# Altium footprint library M3.PcbLib: 33 footprints (part 1 of 3)
Each footprint in its own frame and in the unit in brackets; x right, y up, seen from the top. Pads: shape width x height; smd on the part's side, far side on the other; paste and mask are expansions set on the pad; w line width, h text height; cw(c..) or ccw(c..) is an arc to the next point about the centre after c.
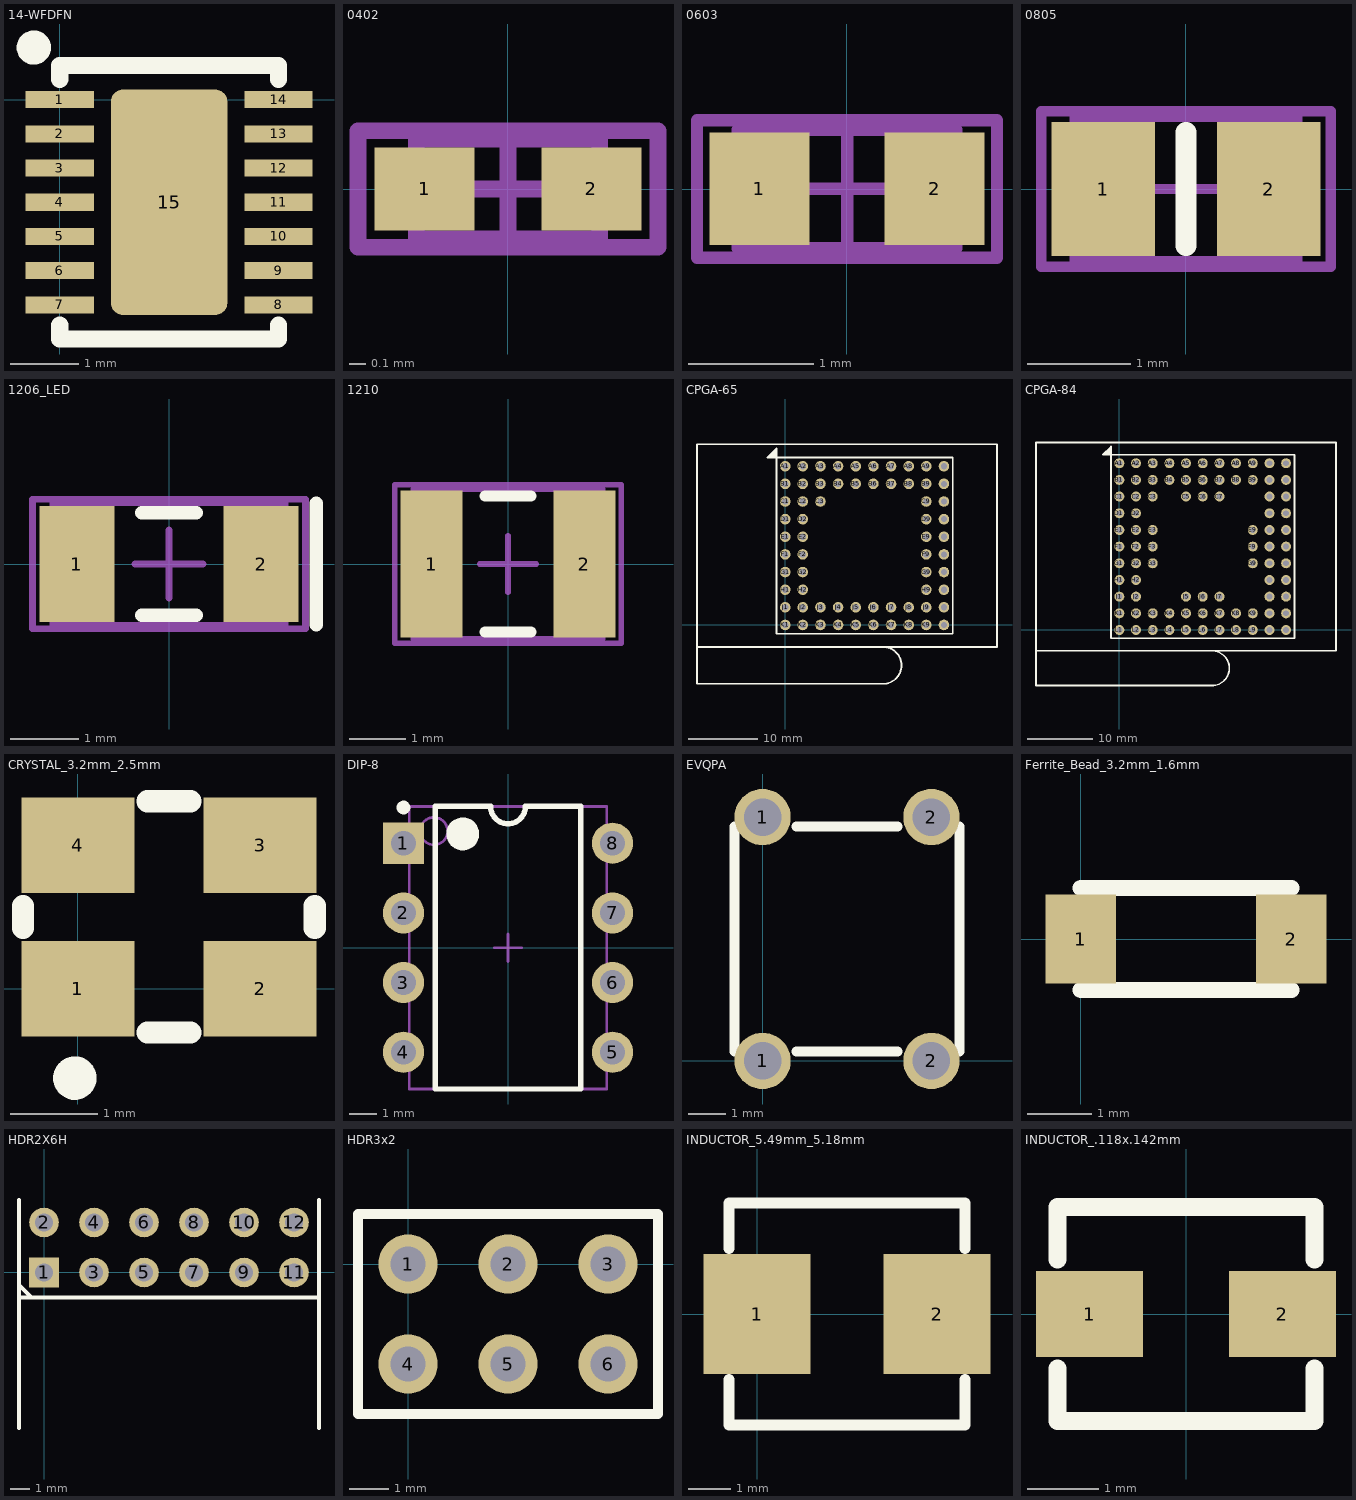
[diagram p0: the footprints below, top view; thin cyan lines are the x and y axes]

## 14-WFDFN [mm]
pads (15):
  rect 1x0.25 smd: 1(0,0) 2(0,-0.5) 3(0,-1) 4(0,-1.5) 5(0,-2) 6(0,-2.5) 7(0,-3) 8(3.2,-3) 9(3.2,-2.5) 10(3.2,-2) 11(3.2,-1.5) 12(3.2,-1) 13(3.2,-0.5) 14(3.2,0)
  rrect20% 1.7x3.3 smd: 15(1.6,-1.5)
Top Overlay:
  circle w0.25: c-0.379,0.762 r0.125
  lines w0.254: 0,-3.3 0,-3.5 3.2,-3.5 3.2,-3.3 ; 0,0.3 0,0.5 3.2,0.5 3.2,0.3

## 0402 [mm] "Chip Capacitor, Body 1.0x0.5mm, IPC High Density"
height 1.3
pads (2):
  rect 0.6x0.5 smd: 1(-0.5,0) 2(0.5,0)
Mechanical 13:
  lines w0.1: -0.55,-0.3 0.55,-0.3 0.55,0.3 -0.55,0.3 -0.55,-0.3
Mechanical 15:
  lines w0.1: -0.3,0 0.3,0 ; 0,-0.3 0,0.3 ; -0.9,-0.35 0.9,-0.35 0.9,0.35 -0.9,0.35 -0.9,-0.35
3D body: height 1.3, standoff 0, extent -0.55,-0.3 0.55,0.3

## 0603 [mm] "Chip Capacitor, Body 1.6x0.8mm, IPC High Density"
height 1.3
pads (2):
  rect 0.8x0.9 smd: 1(-0.7,0) 2(0.7,0)
Mechanical 13:
  lines w0.1: -0.875,-0.475 0.875,-0.475 0.875,0.475 -0.875,0.475 -0.875,-0.475
Mechanical 15:
  lines w0.1: -0.475,0 0.475,0 ; 0,-0.475 0,0.475 ; -1.2,-0.55 1.2,-0.55 1.2,0.55 -1.2,0.55 -1.2,-0.55
3D body: height 1.3, standoff 0, extent -0.875,-0.475 0.875,0.475

## 0805 [mm] "Chip Resistor, Body 2.0x1.2mm, IPC High Density"
height 0.7
pads (2):
  rect 1x1.3 smd: 1(-0.8,0) 2(0.8,0)
Top Overlay:
  lines w0.2: 0,-0.55 0,0.55
Mechanical 13:
  lines w0.1: -1.075,-0.7 -1.075,0.7 1.075,0.7 1.075,-0.7 -1.075,-0.7
Mechanical 15:
  lines w0.1: -0.5,0 0.5,0 ; 0,-0.5 0,0.5 ; -1.4,-0.75 -1.4,0.75 1.4,0.75 1.4,-0.75 -1.4,-0.75
3D body: height 0.7, standoff 0, extent -1.075,-0.7 1.075,0.7

## 1206_LED [mm] "Chip Capacitor, Body 3.2x1.6mm, IPC High Density"
height 1.3
pads (2):
  rect 1.1x1.7 smd: 1(-1.35,0) 2(1.35,0)
Top Overlay:
  lines w0.2: -0.4,-0.75 0.4,-0.75 ; -0.4,0.75 0.4,0.75 ; 2.159,-0.889 2.159,0.889
Mechanical 13:
  lines w0.1: -1.7,-0.9 1.7,-0.9 1.7,0.9 -1.7,0.9 -1.7,-0.9
Mechanical 15:
  lines w0.1: -0.5,0 0.5,0 ; 0,-0.5 0,0.5 ; -2,-0.95 2,-0.95 2,0.95 -2,0.95 -2,-0.95
3D body: height 1.3, standoff 0, extent -1.7,-0.9 1.7,0.9

## 1210 [mm] "Chip Resistor, Body 3.2x2.5mm, IPC High Density"
height 0.9
pads (2):
  rect 1.1x2.6 smd: 1(-1.35,0) 2(1.35,0)
Top Overlay:
  lines w0.2: -0.4,-1.2 0.4,-1.2 ; -0.4,1.2 0.4,1.2
Mechanical 13:
  lines w0.1: -1.675,-1.32 1.675,-1.32 1.675,1.32 -1.675,1.32 -1.675,-1.32
Mechanical 15:
  lines w0.1: -0.5,0 0.5,0 ; 0,-0.5 0,0.5 ; -2,-1.4 2,-1.4 2,1.4 -2,1.4 -2,-1.4
3D body: height 0.9, standoff 0, extent -1.675,-1.32 1.675,1.32

## CPGA-65 [mil]
pads (65):
  round 60 hole 35: A1(0,900) A2(100,900) A3(200,900) A4(300,900) A5(400,900) A6(500,900) A7(600,900) A8(700,900) A9(800,900) A10(900,900) B1(0,800) B2(100,800) B3(200,800) B4(300,800) B5(400,800) B6(500,800) B7(600,800) B8(700,800) B9(800,800) B10(900,800) C1(0,700) C2(100,700) C3(200,700) C9(800,700) C10(900,700) D1(0,600) D2(100,600) D9(800,600) D10(900,600) E1(0,500) E2(100,500) E9(800,500) E10(900,500) F1(0,400) F2(100,400) F9(800,400) F10(900,400) G1(0,300) G2(100,300) G9(800,300) G10(900,300) H1(0,200) H2(100,200) H9(800,200) H10(900,200) J1(0,100) J2(100,100) J3(200,100) J4(300,100) J5(400,100) J6(500,100) J7(600,100) J8(700,100) J9(800,100) J10(900,100) K1(0,0) K2(100,0) K3(200,0) K4(300,0) K5(400,0) K6(500,0) K7(600,0) K8(700,0) K9(800,0) K10(900,0)
Top Overlay:
  region: -100,950 -50,950 -50,1000
  lines w10: -50,945 -50,1000 -100,950 -50,950 ; 554.81,-333.46 ccw(c555.12,-229.13) 554.81,-124.8 ; 555.12,-333.46 -500,-333.46 -500,-124.8 ; -500,-124.8 -500,1024.8 1200.79,1024.8 1200.79,-124.8 -500,-124.8 ; -50,950 950,950 950,-50 -50,-50 -50,950

## CPGA-84 [mil]
pads (85):
  round 60 hole 35: A1(0,1000) A2(100,1000) A3(200,1000) A4(300,1000) A5(400,1000) A6(500,1000) A7(600,1000) A8(700,1000) A9(800,1000) A10(900,1000) A11(1000,1000) B1(0,900) B2(100,900) B3(200,900) B4(300,900) B5(400,900) B6(500,900) B7(600,900) B8(700,900) B9(800,900) B10(900,900) B11(1000,900) C1(0,800) C2(100,800) C3(200,800) C5(400,800) C6(500,800) C7(600,800) C10(900,800) C11(1000,800) D1(0,700) D2(100,700) D10(900,700) D11(1000,700) E1(0,600) E2(100,600) E3(200,600) E9(800,600) E10(900,600) E11(1000,600) F1(0,500) F2(100,500) F3(200,500) F9(800,500) F10(900,500) F11(1000,500) G1(0,400) G2(100,400) G3(200,400) G9(800,400) G10(900,400) G11(1000,400) H1(0,300) H2(100,300) H10(900,300) H11(1000,300) J1(0,200) J2(100,200) J5(400,200) J6(500,200) J7(600,200) J10(900,200) J11(1000,200) K1(0,100) K2(100,100) K3(200,100) K4(300,100) K5(400,100) K6(500,100) K7(600,100) K8(700,100) K9(800,100) K10(900,100) K11(1000,100) L1(0,0) L2(100,0) L3(200,0) L4(300,0) L5(400,0) L6(500,0) L7(600,0) L8(700,0) L9(800,0) L10(900,0) L11(1000,0)
Top Overlay:
  region: -100,1050 -50,1050 -50,1100
  lines w10: -50,1045 -50,1100 -100,1050 -50,1050 ; 554.81,-333.46 ccw(c555.12,-229.13) 554.81,-124.8 ; 555.12,-333.46 -500,-333.46 -500,-124.8 ; -500,-124.8 -500,1124.8 1299.21,1124.8 1299.21,-124.8 -500,-124.8 ; -50,1050 -50,-50 1050,-50 1050,1050 -50,1050

## CRYSTAL_3.2mm_2.5mm [mm]
pads (4):
  rect 1.3x1.1 smd: 1(0,0) 2(2.1,0) 3(2.1,1.65) 4(0,1.65)
Top Overlay:
  circle w0.25: c-0.035,-1.033 r0.125
  lines w0.254: -0.635,0.7 -0.635,0.95 ; 0.8,-0.508 1.3,-0.508 ; 0.8,2.159 1.3,2.159 ; 2.73,0.7 2.73,0.95

## DIP-8 [mm] "DIP; 8 Leads; Row Spacing 7.62 mm; Pitch 2.54 mm"
height 5.08
pads (8):
  rect 1.5x1.5 hole 0.9: 1(-3.81,3.81)
  round 1.5 hole 0.9: 2(-3.81,1.27) 3(-3.81,-1.27) 4(-3.81,-3.81) 5(3.81,-3.81) 6(3.81,-1.27) 7(3.81,1.27) 8(3.81,3.81)
Top Overlay:
  circle w0.6: c-1.65,4.15 r0.3
  circle w0.25: c-3.81,5.11 r0.125
  lines w0.2: -2.65,-5.15 2.65,-5.15 2.65,5.15 0.635,5.15 cw(c0,5.15) -0.635,5.15 -2.65,5.15 -2.65,-5.15
Mechanical 13:
  circle w0.1: c-2.7,4.25 r0.5
  lines w0.1: -3.6,-5.15 3.6,-5.15 3.6,5.15 -3.6,5.15 -3.6,-5.15
Mechanical 15:
  lines w0.1: -0.5,0 0.5,0 ; 0,-0.5 0,0.5
3D body: height 5.08, standoff 0, extent -3.6,-5.15 3.6,5.15

## EVQPA [mm]
pads (4):
  round 1.5 hole 1: 1(0,0) 1(0,6.5) 2(4.5,0) 2(4.5,6.5)
Top Overlay:
  lines w0.254: -0.75,0.25 -0.75,6.25 ; 0.9,0.25 3.6,0.25 ; 0.9,6.25 3.6,6.25 ; 5.25,0.25 5.25,6.25

## Ferrite_Bead_3.2mm_1.6mm [mm]
pads (2):
  rect 1.1x1.4 smd: 1(0,0) 2(3.3,0)
Top Overlay:
  lines w0.254: 0,-0.8 3.302,-0.8 ; 0,0.8 3.302,0.8

## HDR2X6H [mm] "Connector; Header; 6x2 Position; Right Angle"
pads (12):
  rect 1.5x1.5 hole 0.9: 1(0,0)
  round 1.5 hole 0.9: 2(0,2.54) 3(2.54,0) 4(2.54,2.54) 5(5.08,0) 6(5.08,2.54) 7(7.62,0) 8(7.62,2.54) 9(10.16,0) 10(10.16,2.54) 11(12.7,0) 12(12.7,2.54)
Top Overlay:
  lines w0.2: -1.27,-7.9 -1.27,3.683 ; -1.27,-1.27 13.97,-1.27 ; -1.27,-0.635 -0.635,-1.27 ; 13.97,-7.9 13.97,3.683

## HDR3x2 [mm]
pads (6):
  round 1.5 hole 0.9: 1(0,0) 2(2.54,0) 3(5.08,0) 4(0,-2.54) 5(2.54,-2.54) 6(5.08,-2.54)
Top Overlay:
  lines w0.254: -1.27,-3.81 -1.27,1.27 6.35,1.27 6.35,-3.81 -1.27,-3.81

## INDUCTOR_5.49mm_5.18mm [mm]
pads (2):
  rect 2.5x2.8 smd: 1(0,0) 2(4.2,0)
Top Overlay:
  lines w0.254: -0.65,-2.59 -0.65,-1.524 ; -0.65,1.524 -0.65,2.59 4.85,2.59 4.85,1.524 ; -0.635,-2.59 4.85,-2.59 4.85,-1.524

## INDUCTOR_.118x.142mm [mm]
pads (2):
  rect 1.5x1.2 smd: 1(-1.35,0) 2(1.35,0)
Top Overlay:
  lines w0.254: -1.8,-0.762 -1.8,-1.5 1.8,-1.5 1.8,-0.762 ; -1.8,0.762 -1.8,1.5 1.8,1.5 1.8,0.762